# Altium footprint library qfn_16_p50_300x300x60_l40x25_t170x170.PcbLib: 1 footprints
Each footprint in its own frame and in the unit in brackets; x right, y up, seen from the top. Pads: shape width x height; smd on the part's side, far side on the other; paste and mask are expansions set on the pad; w line width, h text height; cw(c..) or ccw(c..) is an arc to the next point about the centre after c.
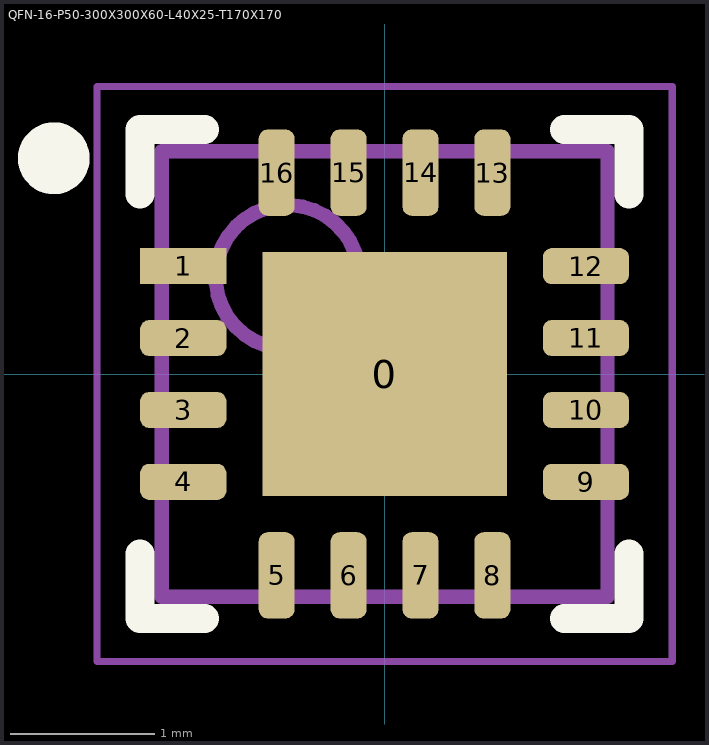
[diagram p0: the footprint, top view; thin cyan lines are the x and y axes]

## QFN-16-P50-300X300X60-L40X25-T170X170 [mm] "QFN, 16-Leads, Body 3,00x3,00mm, Pitch 0,50mm, Thermal Pad 1,70x1,70mm, IPC Medium Density"
height 0.6
pads (17):
  rect 1.7x1.7 smd: 0(0,0)
  rect 0.6x0.25 smd: 1(-1.4,0.75)
  rrect50% 0.6x0.25 smd: 2(-1.4,0.25) 3(-1.4,-0.25) 4(-1.4,-0.75) 9(1.4,-0.75) 10(1.4,-0.25) 11(1.4,0.25) 12(1.4,0.75)
  rrect50% 0.25x0.6 smd: 5(-0.75,-1.4) 6(-0.25,-1.4) 7(0.25,-1.4) 8(0.75,-1.4) 13(0.75,1.4) 14(0.25,1.4) 15(-0.25,1.4) 16(-0.75,1.4)
Top Overlay:
  circle w0.25: c-2.3,1.5 r0.125
  lines w0.2: -1.7,-1.25 -1.7,-1.7 -1.25,-1.7 ; -1.7,1.25 -1.7,1.7 -1.25,1.7 ; 1.25,-1.7 1.7,-1.7 1.7,-1.25 ; 1.25,1.7 1.7,1.7 1.7,1.25
Top Comment:
  text ".Comment" at 1.194,2.388 h1.2
Top Designator:
  text ".Designator" at -0.675,2.388 h1.2
Top Component Outline:
  circle w0.1: c-0.675,0.675 r0.5
  lines w0.1: -1.55,-1.55 -1.55,1.55 1.55,1.55 1.55,-1.55 -1.55,-1.55
Top Courtyard (Mech15):
  lines w0.05: -2,-2 -2,2 2,2 2,-2 -2,-2
  lines w0.1: -0.5,0 0.5,0 ; 0,-0.5 0,0.5
3D body "QFN-16_3x3.STEP": height 0.8, standoff 0, extent -1.5,-1.5 1.5,1.5